# EAGLE library part MCV10 (library J-HDR3.5mm)
MCV 1,5/10-G-3,5 [PHOENIX CONTACT,1843680] CONN HEADER SHROUDED 10POS 3.5MM MCVR 1,5/10-ST-3,5 [PHOENIX CONTACT,1863233] CONN PLUG 10POS SCREW 3.5MM PST 1,0/10-3,5 [PHOENIX CONTACT,1945177] CONN HEADER STRIP PIN 10POS 3.5MM PT 1,5/10-PVH-3,5 [PHOENIX CONTACT,1984099] CONN PLUG STRIP 10POS 3.5MM Drill Size 3/64": .0469" (1.2mm)
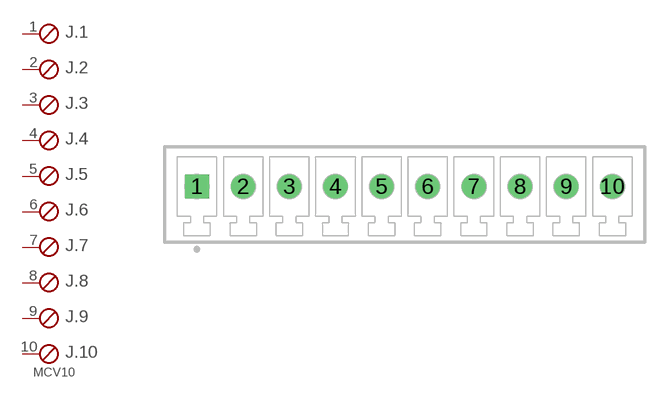
[diagram p3: symbol with the pads of MCV10; footprint MCV10]

Designator prefix J; gates .10=SKBV .1=SKB .2=SKB .3=SKB .4=SKB .5=SKB .6=SKB .7=SKB .8=SKB .9=SKB

## MCV10  [MCV10]
1  .1:1  pas
2  .2:1  pas
3  .3:1  pas
4  .4:1  pas
5  .5:1  pas
6  .6:1  pas
7  .7:1  pas
8  .8:1  pas
9  .9:1  pas
10  .10:1  pas

## Footprint MCV10 (pad centres in mm)
PHOENIX CONTACT 1843680 MCV 1,5/10-G-3,5 Drill Size 3/64": .0469" (1.2mm)
drill 1.2 square: 1 0,0
drill 1.2: 2 3.5,0; 3 7,0; 4 10.5,0; 5 14,0; 6 17.5,0; 7 21,0; 8 24.5,0; 9 28,0; 10 31.5,0